# Altium footprint library Project.PcbLib: 46 footprints (part 2 of 3)
Each footprint in its own frame and in the unit in brackets; x right, y up, seen from the top. Pads: shape width x height; smd on the part's side, far side on the other; paste and mask are expansions set on the pad; w line width, h text height; cw(c..) or ccw(c..) is an arc to the next point about the centre after c.
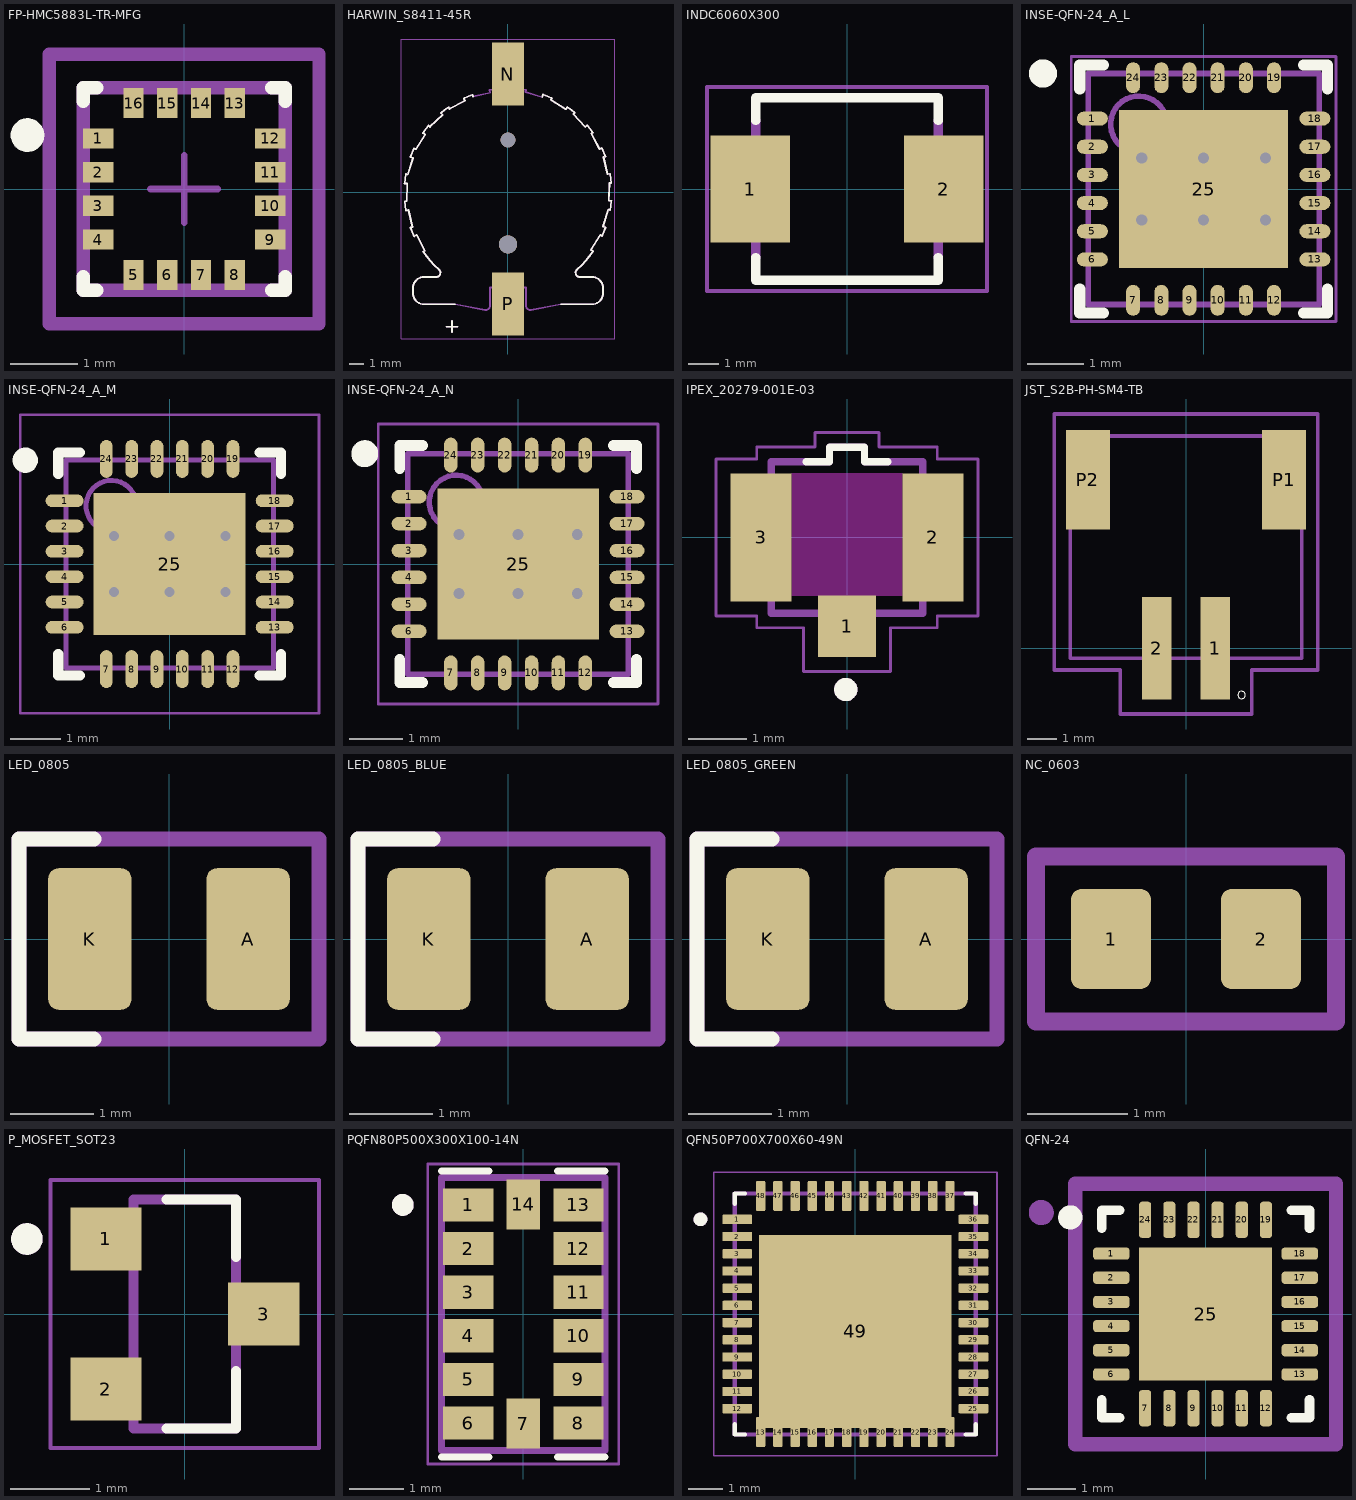
[diagram p1: the footprints below, top view; thin cyan lines are the x and y axes]

## FP-HMC5883L-TR-MFG [mm]
pads (16):
  rect 0.45x0.3 smd paste+0 mask+0: 1(-1.275,0.75) 2(-1.275,0.25) 3(-1.275,-0.25) 4(-1.275,-0.75) 9(1.275,-0.75) 10(1.275,-0.25) 11(1.275,0.25) 12(1.275,0.75)
  rect 0.3x0.45 smd paste+0 mask+0: 5(-0.75,-1.275) 6(-0.25,-1.275) 7(0.25,-1.275) 8(0.75,-1.275) 13(0.75,1.275) 14(0.25,1.275) 15(-0.25,1.275) 16(-0.75,1.275)
Top Overlay:
  circle w0.25: c-2.325,0.8 r0.125
  lines w0.2: -1.5,-1.3 -1.5,-1.5 -1.3,-1.5 ; -1.5,1.3 -1.5,1.5 -1.3,1.5 ; 1.3,-1.5 1.5,-1.5 1.5,-1.3 ; 1.3,1.5 1.5,1.5 1.5,1.3
Top 3D Body:
  lines w0.2: -1.5,-1.5 -1.5,1.5 1.5,1.5 1.5,-1.5 -1.5,-1.5
Top Courtyard:
  lines w0.2: -2,-2 -2,2 2,2 2,-2 -2,-2
Top Assembly:
  lines w0.2: -2,-2 -2,2 2,2 2,-2 -2,-2
  text ".Designator" at 0,0.188 h1
Top Component Center:
  lines w0.1: -0.5,0 0.5,0 ; 0,-0.5 0,0.5
3D body "IC_Honeywell_HMC5883L-TR_eec.STEP": height 0.25, standoff 0, extent -2,-2 2,2

## HARWIN_S8411-45R [mm]
height 4.25
pads (4):
  rect 2.3x4.5 smd: N(0,8.425) P(0,-7.975)
  round 1.3 hole 1.3 unplated: ""(0,-3.725)
  round 1.05 hole 1.05 unplated: ""(0,3.725)
Top Overlay:
  lines w0.127: -7.374,0.615 -7.18,0.608 -7.229,-0.649 -7.372,-0.643 ; -7.372,-0.645 ccw(c0,0) -7.288,-1.285 ; -7.372,0.645 cw(c0,0) -7.288,1.285 ; -7.287,1.287 -7.15,1.245 -6.778,2.446 -6.964,2.503 ; -7.282,-1.315 -7.093,-1.272 -6.814,-2.498 -6.954,-2.53 ; -6.954,-2.531 ccw(c0,0) -6.707,-3.127 ; -6.954,2.531 cw(c0,0) -6.707,3.127 ; -6.706,3.13 -6.584,3.053 -5.914,4.117 -6.079,4.22 ; -6.694,-3.155 -6.522,-3.065 -5.936,-4.177 -6.062,-4.243 ; -6.062,-4.244 ccw(c0,0) -4.952,-5.499 ; -6.062,4.244 cw(c0,0) -5.669,4.757 ; -5.667,4.759 -5.57,4.654 -4.647,5.508 -4.779,5.65 ; -4.921,-5.527 cw(c-5.121,-5.75) -5.121,-6.05 -5.984,-6.05 ccw(c-5.984,-6.85) -6.784,-6.85 -6.784,-7.2 ccw(c-5.984,-7.2) -5.984,-8 -3.764,-8 ; -4.757,5.669 cw(c0,0) -4.244,6.062 ; -4.4,-9.6 -3.6,-9.6 ; -4.242,6.063 -4.175,5.937 -3.063,6.523 -3.154,6.694 ; -4,-10 -4,-9.2 ; -3.127,6.707 cw(c0,0) -2.531,6.954 ; -2.528,6.955 -2.497,6.816 ; 2.447,6.78 2.504,6.964 ; 2.531,6.954 cw(c0,0) 3.127,6.707 ; 3.13,6.705 3.054,6.586 4.118,5.916 4.221,6.078 ; 3.764,-8 5.984,-8 ccw(c5.984,-7.2) 6.784,-7.2 6.784,-6.85 ccw(c5.984,-6.85) 5.984,-6.05 5.121,-6.05 cw(c5.121,-5.75) 4.921,-5.527 ; 4.244,6.062 cw(c0,0) 4.757,5.669 ; 4.759,5.667 4.655,5.571 5.509,4.649 5.65,4.779 ; 4.952,-5.499 ccw(c0,0) 6.062,-4.244 ; 5.669,4.757 cw(c0,0) 6.062,4.244 ; 6.063,4.243 5.938,4.177 6.525,3.065 6.694,3.154 ; 6.079,-4.219 5.917,-4.117 6.587,-3.053 6.706,-3.128 ; 6.707,-3.127 ccw(c0,0) 6.954,-2.531 ; 6.707,3.127 cw(c0,0) 6.954,2.531 ; 6.954,2.529 6.817,2.498 7.095,1.272 7.282,1.314 ; 6.964,-2.502 6.781,-2.446 7.153,-1.245 7.287,-1.286 ; 7.288,-1.285 ccw(c0,0) 7.372,-0.645 ; 7.288,1.285 cw(c0,0) 7.372,0.645 ; 7.372,0.643 7.231,0.649 7.183,-0.608 7.374,-0.615
Mechanical 13:
  lines w0.127: -7.374,0.615 -7.18,0.608 -7.229,-0.649 -7.372,-0.643 ; -7.372,-0.645 ccw(c0,0) -7.288,-1.285 ; -7.372,0.645 cw(c0,0) -7.288,1.285 ; -7.287,1.287 -7.15,1.245 -6.778,2.446 -6.964,2.503 ; -7.282,-1.315 -7.093,-1.272 -6.814,-2.498 -6.954,-2.53 ; -6.954,-2.531 ccw(c0,0) -6.707,-3.127 ; -6.954,2.531 cw(c0,0) -6.707,3.127 ; -6.706,3.13 -6.584,3.053 -5.914,4.117 -6.079,4.22 ; -6.694,-3.155 -6.522,-3.065 -5.936,-4.177 -6.062,-4.243 ; -6.062,-4.244 ccw(c0,0) -4.952,-5.499 ; -6.062,4.244 cw(c0,0) -5.669,4.757 ; -5.667,4.759 -5.57,4.654 -4.647,5.508 -4.779,5.65 ; -4.921,-5.527 cw(c-5.121,-5.75) -5.121,-6.05 -5.984,-6.05 ccw(c-5.984,-6.85) -6.784,-6.85 -6.784,-7.2 ccw(c-5.984,-7.2) -5.984,-8 -3.764,-8 -1.637,-8.4 ; -4.757,5.669 cw(c0,0) -4.244,6.062 ; -4.4,-9.6 -3.6,-9.6 ; -4.242,6.063 -4.175,5.937 -3.063,6.523 -3.154,6.694 ; -4,-10 -4,-9.2 ; -3.127,6.707 cw(c0,0) -2.531,6.954 ; -2.528,6.955 -2.497,6.816 -1.271,7.094 -1.313,7.283 ; -1.639,-8.4 ccw(c-1.582,-8.105) -1.282,-8.105 -1.282,-6.81 1.282,-6.81 1.282,-8.105 ccw(c1.582,-8.105) 1.639,-8.4 ; -1.285,7.288 cw(c0,0) -0.902,7.345 ; -0.9,7.33 0.9,7.33 ; 0.902,7.345 cw(c0,0) 1.285,7.288 ; 1.288,7.287 1.246,7.151 2.447,6.78 2.504,6.964 ; 1.637,-8.4 3.764,-8 5.984,-8 ccw(c5.984,-7.2) 6.784,-7.2 6.784,-6.85 ccw(c5.984,-6.85) 5.984,-6.05 5.121,-6.05 cw(c5.121,-5.75) 4.921,-5.527 ; 2.531,6.954 cw(c0,0) 3.127,6.707 ; 3.13,6.705 3.054,6.586 4.118,5.916 4.221,6.078 ; 4.244,6.062 cw(c0,0) 4.757,5.669 ; 4.759,5.667 4.655,5.571 5.509,4.649 5.65,4.779 ; 4.952,-5.499 ccw(c0,0) 6.062,-4.244 ; 5.669,4.757 cw(c0,0) 6.062,4.244 ; 6.063,4.243 5.938,4.177 6.525,3.065 6.694,3.154 ; 6.079,-4.219 5.917,-4.117 6.587,-3.053 6.706,-3.128 ; 6.707,-3.127 ccw(c0,0) 6.954,-2.531 ; 6.707,3.127 cw(c0,0) 6.954,2.531 ; 6.954,2.529 6.817,2.498 7.095,1.272 7.282,1.314 ; 6.964,-2.502 6.781,-2.446 7.153,-1.245 7.287,-1.286 ; 7.288,-1.285 ccw(c0,0) 7.372,-0.645 ; 7.288,1.285 cw(c0,0) 7.372,0.645 ; 7.372,0.643 7.231,0.649 7.183,-0.608 7.374,-0.615
Mechanical 15:
  lines w0.05: -7.624,-10.475 7.624,-10.475 7.624,10.925 -7.624,10.925 -7.624,-10.475
3D body "step_temp.STEP": height 4.25, standoff -0.95, extent -7.372,-9.6 7.372,9.6

## INDC6060X300 [mm]
pads (2):
  rect 2.6x3.5 smd: 1(-3.175,0) 2(3.175,0)
Top Overlay:
  lines w0.305: -3,-2.25 -3,-3 3,-3 3,-2.25 ; -3,2.25 -3,3 3,3 3,2.25
Mechanical 13:
  region: 3.5,-1.252 3.004,-1.252 3.004,1.25 3.5,1.25
  region: -3,-1.25 -3.5,-1.25 -3.5,1.25 -3,1.25
  lines w0.305: -3,-2.25 -3,2.25 ; 3,-2.25 3,2.25
Mechanical 15:
  lines w0.127: -4.6,-3.35 -4.6,3.35 4.6,3.35 4.6,-3.35 -4.6,-3.35
3D body "step_temp.STEP": height 3, standoff 0, extent -3.55,-3 3.55,3

## INSE-QFN-24_A_L [mm] "QFN, 24-Leads, Body 4.1x4.1mm, Pitch 0.50mm, Thermal Pad 3.00x2.80mm, IPC High Density"
height 0.95
pads (25):
  oval 0.55x0.25 smd: 1(-1.975,1.25) 2(-1.975,0.75) 3(-1.975,0.25) 4(-1.975,-0.25) 5(-1.975,-0.75) 6(-1.975,-1.25) 13(1.975,-1.25) 14(1.975,-0.75) 15(1.975,-0.25) 16(1.975,0.25) 17(1.975,0.75) 18(1.975,1.25)
  oval 0.25x0.55 smd: 7(-1.25,-1.975) 8(-0.75,-1.975) 9(-0.25,-1.975) 10(0.25,-1.975) 11(0.75,-1.975) 12(1.25,-1.975) 19(1.25,1.975) 20(0.75,1.975) 21(0.25,1.975) 22(-0.25,1.975) 23(-0.75,1.975) 24(-1.25,1.975)
  rect 3x2.8 smd: 25(0,0)
via 1.1,-0.55 diameter 0.5 hole 0.2
via 0,-0.55 diameter 0.5 hole 0.2
via -1.1,-0.55 diameter 0.5 hole 0.2
via 1.1,0.55 diameter 0.5 hole 0.2
via 0,0.55 diameter 0.5 hole 0.2
via -1.1,0.55 diameter 0.5 hole 0.2
Top Overlay:
  circle w0.25: c-2.85,2.05 r0.125
  lines w0.2: -2.2,-1.775 -2.2,-2.2 -1.775,-2.2 ; -2.2,1.775 -2.2,2.2 -1.775,2.2 ; 1.775,-2.2 2.2,-2.2 2.2,-1.775 ; 1.775,2.2 2.2,2.2 2.2,1.775
Mechanical 13:
  circle w0.1: c-1.15,1.15 r0.5
  lines w0.1: -2.05,-2.05 2.05,-2.05 2.05,2.05 -2.05,2.05 -2.05,-2.05
Mechanical 15:
  lines w0.05: -2.35,-2.35 2.35,-2.35 2.35,2.35 -2.35,2.35 -2.35,-2.35
  lines w0.1: -0.5,0 0.5,0 ; 0,-0.5 0,0.5
3D body "QFN50P400X400X95_HS-25L.step": height 0.95, standoff 0, extent -2.051,-2.051 2.051,2.051

## INSE-QFN-24_A_M [mm] "QFN, 24-Leads, Body 4.1x4.1mm, Pitch 0.50mm, Thermal Pad 3.00x2.80mm, IPC Low Density"
height 0.95
pads (25):
  oval 0.75x0.25 smd: 1(-2.075,1.25) 2(-2.075,0.75) 3(-2.075,0.25) 4(-2.075,-0.25) 5(-2.075,-0.75) 6(-2.075,-1.25) 13(2.075,-1.25) 14(2.075,-0.75) 15(2.075,-0.25) 16(2.075,0.25) 17(2.075,0.75) 18(2.075,1.25)
  oval 0.25x0.75 smd: 7(-1.25,-2.075) 8(-0.75,-2.075) 9(-0.25,-2.075) 10(0.25,-2.075) 11(0.75,-2.075) 12(1.25,-2.075) 19(1.25,2.075) 20(0.75,2.075) 21(0.25,2.075) 22(-0.25,2.075) 23(-0.75,2.075) 24(-1.25,2.075)
  rect 3x2.8 smd: 25(0,0)
via -1.1,0.55 diameter 0.5 hole 0.2
via 0,0.55 diameter 0.5 hole 0.2
via 1.1,0.55 diameter 0.5 hole 0.2
via -1.1,-0.55 diameter 0.5 hole 0.2
via 0,-0.55 diameter 0.5 hole 0.2
via 1.1,-0.55 diameter 0.5 hole 0.2
Top Overlay:
  circle w0.25: c-2.85,2.05 r0.125
  lines w0.2: -2.2,-1.775 -2.2,-2.2 -1.775,-2.2 ; -2.2,1.775 -2.2,2.2 -1.775,2.2 ; 1.775,-2.2 2.2,-2.2 2.2,-1.775 ; 1.775,2.2 2.2,2.2 2.2,1.775
Mechanical 13:
  circle w0.1: c-1.15,1.15 r0.5
  lines w0.1: -2.05,-2.05 -2.05,2.05 2.05,2.05 2.05,-2.05 -2.05,-2.05
Mechanical 15:
  lines w0.05: -2.95,-2.95 -2.95,2.95 2.95,2.95 2.95,-2.95 -2.95,-2.95
  lines w0.1: -0.5,0 0.5,0 ; 0,-0.5 0,0.5
3D body "QFN50P400X400X95_HS-25M.step": height 0.95, standoff 0, extent -2.051,-2.051 2.051,2.051

## INSE-QFN-24_A_N [mm] "QFN, 24-Leads, Body 4.1x4.1mm, Pitch 0.50mm, Thermal Pad 3.00x2.80mm, IPC Medium Density"
height 0.95
pads (25):
  oval 0.65x0.25 smd: 1(-2.025,1.25) 2(-2.025,0.75) 3(-2.025,0.25) 4(-2.025,-0.25) 5(-2.025,-0.75) 6(-2.025,-1.25) 13(2.025,-1.25) 14(2.025,-0.75) 15(2.025,-0.25) 16(2.025,0.25) 17(2.025,0.75) 18(2.025,1.25)
  oval 0.25x0.65 smd: 7(-1.25,-2.025) 8(-0.75,-2.025) 9(-0.25,-2.025) 10(0.25,-2.025) 11(0.75,-2.025) 12(1.25,-2.025) 19(1.25,2.025) 20(0.75,2.025) 21(0.25,2.025) 22(-0.25,2.025) 23(-0.75,2.025) 24(-1.25,2.025)
  rect 3x2.8 smd: 25(0,0)
via -1.1,0.55 diameter 0.5 hole 0.2
via 0,0.55 diameter 0.5 hole 0.2
via 1.1,0.55 diameter 0.5 hole 0.2
via -1.1,-0.55 diameter 0.5 hole 0.2
via 0,-0.55 diameter 0.5 hole 0.2
via 1.1,-0.55 diameter 0.5 hole 0.2
Top Overlay:
  circle w0.25: c-2.85,2.05 r0.125
  lines w0.2: -2.2,-1.775 -2.2,-2.2 -1.775,-2.2 ; -2.2,1.775 -2.2,2.2 -1.775,2.2 ; 1.775,-2.2 2.2,-2.2 2.2,-1.775 ; 1.775,2.2 2.2,2.2 2.2,1.775
Mechanical 13:
  circle w0.1: c-1.15,1.15 r0.5
  lines w0.1: -2.05,-2.05 -2.05,2.05 2.05,2.05 2.05,-2.05 -2.05,-2.05
Mechanical 15:
  lines w0.05: -2.6,-2.6 -2.6,2.6 2.6,2.6 2.6,-2.6 -2.6,-2.6
  lines w0.1: -0.5,0 0.5,0 ; 0,-0.5 0,0.5
3D body "QFN50P400X400X95_HS-25N.step": height 0.95, standoff 0, extent -2.051,-2.051 2.051,2.051

## IPEX_20279-001E-03 [mm]
height 1.25
pads (3):
  rect 1x1.05 smd: 1(0,-1.525)
  rect 1.05x2.2 smd: 2(1.475,0) 3(-1.475,0)
Top Overlay:
  circle w0.2: c-0.02,-2.61 r0.1
  lines w0.127: -0.7,1.3 -0.3,1.3 -0.3,1.55 0.3,1.55 0.3,1.3 0.7,1.3
Keep-Out Layer:
  region: 0.95,-1 -0.95,-1 -0.95,1.1 0.95,1.1
Mechanical 13:
  circle w0.2: c-0.02,-2.61 r0.1
  lines w0.127: -1.5,-0.9 -1.3,-0.9 -1.3,-1.3 -0.3,-1.3 -0.3,-1.55 0.3,-1.55 0.3,-1.3 1.3,-1.3 1.3,-0.9 1.5,-0.9 1.5,0.9 1.3,0.9 1.3,1.3 0.3,1.3 0.3,1.55 -0.3,1.55 -0.3,1.3 -1.3,1.3 -1.3,0.9 -1.5,0.9 -1.5,-0.9
Mechanical 15:
  lines w0.05: -2.25,-1.35 -2.25,1.35 -1.55,1.35 -1.55,1.55 -0.55,1.55 -0.55,1.8 0.55,1.8 0.55,1.55 1.55,1.55 1.55,1.35 2.25,1.35 2.25,-1.35 1.55,-1.35 1.55,-1.55 0.75,-1.55 0.75,-2.3 -0.75,-2.3 -0.75,-1.55 -1.55,-1.55 -1.55,-1.35 -2.25,-1.35
3D body "step_temp.STEP": height 1.25, standoff 0, extent -1.5,-1.55 1.5,1.55

## JST_S2B-PH-SM4-TB [mm]
pads (4):
  rect 1x3.5 smd: 1(1,0) 2(-1,0)
  rect 1.5x3.4 smd: P1(3.35,5.75) P2(-3.35,5.75)
Top Overlay:
  circle w0: c1.9,-1.6 r0.127
Mechanical 13:
  lines w0.127: -3.95,-0.35 3.95,-0.35 3.95,7.25 -3.95,7.25 -3.95,-0.35
Mechanical 15:
  lines w0.127: -4.5,-0.75 -2.25,-0.75 -2.25,-2.25 2.25,-2.25 2.25,-0.75 4.5,-0.75 4.5,8 -4.5,8 -4.5,-0.75
3D body "step_temp.STEP": height 5.5, standoff -0.1, extent -3.963,-1.379 3.937,7.221

## LED_0805 [mm]
pads (2):
  rrect25% 1x1.7 smd: A(0.95,0) K(-0.95,0)
Top Overlay:
  lines w0.175: -0.9,-1.2 -1.8,-1.2 -1.8,1.2 -0.9,1.2
Mechanical 13:
  lines w0.175: -1.8,-1.2 -1.8,1.2 1.8,1.2 1.8,-1.2 -1.8,-1.2
  text "+" at 1.767,1 h1
  text "'.Designator'" at -5.665,-0.417 h1
3D body "V0805-SMD-R -Red---3DModel-STEP-468060.STEP": height 0.8, standoff 0, extent -1,-0.625 1,0.625

## LED_0805_BLUE [mm]
pads (2):
  rrect25% 1x1.7 smd: A(0.95,0) K(-0.95,0)
Top Overlay:
  lines w0.175: -0.9,-1.2 -1.8,-1.2 -1.8,1.2 -0.9,1.2
Mechanical 13:
  lines w0.175: -1.8,-1.2 -1.8,1.2 1.8,1.2 1.8,-1.2 -1.8,-1.2
  text "+" at 1.767,1 h1
  text "'.Designator'" at -5.665,-0.417 h1
3D body "LED_0805_BLUE.step": height 1.12, standoff 0.01, extent -1,-0.625 1,0.625

## LED_0805_GREEN [mm]
pads (2):
  rrect25% 1x1.7 smd: A(0.95,0) K(-0.95,0)
Top Overlay:
  lines w0.175: -0.9,-1.2 -1.8,-1.2 -1.8,1.2 -0.9,1.2
Mechanical 13:
  lines w0.175: -1.8,-1.2 1.8,-1.2 1.8,1.2 -1.8,1.2 -1.8,-1.2
  text "'.Designator'" at -5.665,-0.417 h1
  text "+" at 1.767,1 h1
3D body "LED_0805_GREEN.step": height 1.12, standoff 0.01, extent -1,-0.625 1,0.625

## NC_0603 [mm]
pads (2):
  rrect25% 0.8x1 smd: 1(-0.75,0) 2(0.75,0)
Mechanical 13:
  lines w0.175: -1.5,-0.825 -1.5,0.825 1.5,0.825 1.5,-0.825 -1.5,-0.825
  text "'.Designator'" at -5.665,-0.417 h1

## P_MOSFET_SOT23 [mm]
height 1.2
pads (3):
  rect 0.9x0.8 smd: 1(-1,0.95) 2(-1,-0.95) 3(1,0)
Top Overlay:
  circle w0.2: c-2,0.95 r0.1
  lines w0.127: -0.23,-1.45 0.65,-1.45 0.65,-0.72 ; -0.23,1.45 0.65,1.45 0.65,0.72
Mechanical 13:
  circle w0.2: c-2,0.95 r0.1
  lines w0.127: -0.65,-1.45 0.65,-1.45 0.65,1.45 -0.65,1.45 -0.65,-1.45
Mechanical 15:
  lines w0.05: -1.7,-1.7 1.7,-1.7 1.7,1.7 -1.7,1.7 -1.7,-1.7
3D body "step_temp.STEP": height 1.2, standoff 0, extent -1.2,-1.45 1.2,1.45

## PQFN80P500X300X100-14N [mm]
height 1
pads (14):
  rect 0.92x0.61 smd mask+0.05: 1(-1.01,2) 2(-1.01,1.2) 3(-1.01,0.4) 4(-1.01,-0.4) 5(-1.01,-1.2) 6(-1.01,-2) 8(1.01,-2) 9(1.01,-1.2) 10(1.01,-0.4) 11(1.01,0.4) 12(1.01,1.2) 13(1.01,2)
  rect 0.61x0.92 smd mask+0.05: 7(0,-2.01) 14(0,2.01)
Top Overlay:
  circle w0.2: c-2.21,2 r0.1
  lines w0.127: -1.5,-2.625 -0.63,-2.625 ; -1.5,2.625 -0.63,2.625 ; 0.63,-2.625 1.5,-2.625 ; 0.63,2.625 1.5,2.625
Mechanical 13:
  circle w0.2: c-2.21,2 r0.1
  lines w0.127: -1.5,-2.5 -1.5,2.5 1.5,2.5 1.5,-2.5 -1.5,-2.5
Mechanical 15:
  lines w0.05: -1.75,-2.75 1.75,-2.75 1.75,2.75 -1.75,2.75 -1.75,-2.75
3D body "step_temp.STEP": height 1, standoff 0, extent -1.5,-2.5 1.5,2.5

## QFN50P700X700X60-49N [mm]
pads (49):
  rrect25% 0.87x0.27 smd: 1(-3.43,2.75) 2(-3.43,2.25) 3(-3.43,1.75) 4(-3.43,1.25) 5(-3.43,0.75) 6(-3.43,0.25) 7(-3.43,-0.25) 8(-3.43,-0.75) 9(-3.43,-1.25) 10(-3.43,-1.75) 11(-3.43,-2.25) 12(-3.43,-2.75) 25(3.43,-2.75) 26(3.43,-2.25) 27(3.43,-1.75) 28(3.43,-1.25) 29(3.43,-0.75) 30(3.43,-0.25) 31(3.43,0.25) 32(3.43,0.75) 33(3.43,1.25) 34(3.43,1.75) 35(3.43,2.25) 36(3.43,2.75)
  rrect25% 0.27x0.87 smd: 13(-2.75,-3.43) 14(-2.25,-3.43) 15(-1.75,-3.43) 16(-1.25,-3.43) 17(-0.75,-3.43) 18(-0.25,-3.43) 19(0.25,-3.43) 20(0.75,-3.43) 21(1.25,-3.43) 22(1.75,-3.43) 23(2.25,-3.43) 24(2.75,-3.43) 37(2.75,3.43) 38(2.25,3.43) 39(1.75,3.43) 40(1.25,3.43) 41(0.75,3.43) 42(0.25,3.43) 43(-0.25,3.43) 44(-0.75,3.43) 45(-1.25,3.43) 46(-1.75,3.43) 47(-2.25,3.43) 48(-2.75,3.43)
  rect 5.6x5.6 smd paste-4: 49(0,-0.508)
Top Overlay:
  circle w0.2: c-4.5,2.75 r0.1
  lines w0.127: -3.5,-3.205 -3.5,-3.5 -3.205,-3.5 ; -3.5,3.205 -3.5,3.5 -3.205,3.5 ; 3.205,-3.5 3.5,-3.5 3.5,-3.205 ; 3.205,3.5 3.5,3.5 3.5,3.205
Top Paste:
  region: 2.29,-2.29 0.51,-2.29 0.51,-0.51 2.29,-0.51
  region: -0.51,-2.29 -2.29,-2.29 -2.29,-0.51 -0.51,-0.51
  region: 2.29,0.51 0.51,0.51 0.51,2.29 2.29,2.29
  region: -0.51,0.51 -2.29,0.51 -2.29,2.29 -0.51,2.29
Mechanical 13:
  circle w0.2: c-4.5,2.75 r0.1
  lines w0.127: -3.5,-3.5 -3.5,3.5 3.5,3.5 3.5,-3.5 -3.5,-3.5
Mechanical 15:
  lines w0.05: -4.115,-4.115 -4.115,4.115 4.115,4.115 4.115,-4.115 -4.115,-4.115
3D body "STM32F411CEU6--3DModel-STEP-56544.STEP": height 0.6, standoff 0, extent -3.5,-3.5 3.5,3.5

## QFN-24 [mm]
height 0.6
pads (25):
  rrect50% 0.75x0.25 smd mask+0.05: 1(-1.95,1.25) 2(-1.95,0.75) 3(-1.95,0.25) 4(-1.95,-0.25) 5(-1.95,-0.75) 6(-1.95,-1.25) 13(1.95,-1.25) 14(1.95,-0.75) 15(1.95,-0.25) 16(1.95,0.25) 17(1.95,0.75) 18(1.95,1.25)
  rrect50% 0.25x0.75 smd mask+0.05: 7(-1.25,-1.95) 8(-0.75,-1.95) 9(-0.25,-1.95) 10(0.25,-1.95) 11(0.75,-1.95) 12(1.25,-1.95) 19(1.25,1.95) 20(0.75,1.95) 21(0.25,1.95) 22(-0.25,1.95) 23(-0.75,1.95) 24(-1.25,1.95)
  rect 2.75x2.75 smd mask+0.3: 25(0,0)
Top Overlay:
  circle w0.25: c-2.8,2 r0.125
  lines w0.2: -2.15,-1.775 -2.15,-2.15 -1.775,-2.15 ; -2.15,1.775 -2.15,2.15 -1.775,2.15 ; 1.775,-2.15 2.15,-2.15 2.15,-1.775 ; 1.775,2.15 2.15,2.15 2.15,1.775
Mechanical 13:
  circle w0.3: c-3.4,2.1 r0.109
  lines w0.3: -2.7,-2.7 -2.7,2.7 2.7,2.7 2.7,-2.7 -2.7,-2.7
  text "'.Designator'" at -5.815,-0.9 h1
Mechanical 15:
  lines w0.05: -2.575,-2.575 -2.575,2.575 2.575,2.575 2.575,-2.575 -2.575,-2.575
  lines w0.1: -0.5,0 0.5,0 ; 0,-0.5 0,0.5
3D body "QFN-24-0MM5.step": height 0.6, standoff 0, extent -2.001,-2.001 2.001,2.001